# EAGLE library part FS8205 (library FS8205A)
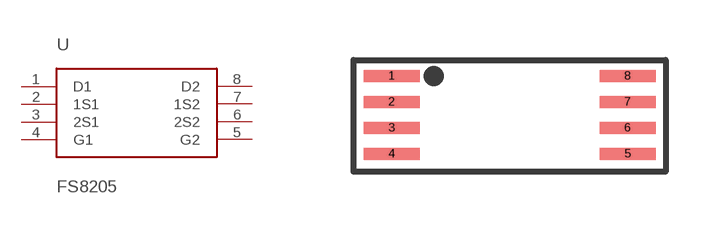
[diagram p1: symbol with the pads of TSSOP-8; footprint TSSOP-8]

Designator prefix -

## FS8205  [TSSOP-8]
1  D1
2  1S1
3  2S1
4  G1
5  G2
6  2S2
7  1S2
8  D2

## Footprint TSSOP-8 (pad centres in mm)
smd 1.4 x 0.3: 1 -2.95,1.3; 2 -2.95,0.65; 3 -2.95,0; 4 -2.95,-0.65; 5 2.95,-0.65; 6 2.95,0; 7 2.95,0.65; 8 2.95,1.3